# Altium schematic symbol library SCH - DRIVER - LED - TI TL4242-Q1_DRJ_8.SchLib: 1 symbol
Pins are listed as number, name and electrical type; pins without a type are passive.

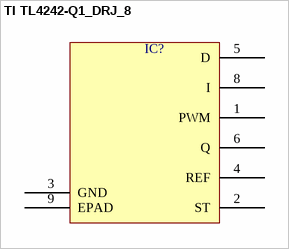
[diagram p0: symbol TI TL4242-Q1_DRJ_8]

## TI TL4242-Q1_DRJ_8
designator IC?  (value not drawn)
pins: 1 PWM, 2 ST, 3 GND, 4 REF, 5 D, 6 Q, 8 I, 9 EPAD